# EAGLE library part MAGI³C-VISM_SIP-8 (library WPME-VISM)
MagI³C-VISM Variable Isolated SIP Module Characteristics Simplest design (no transformer design know how required) Leaded through-hole package for easy manufacturing and prototyping Stand alone solution (CIN and COUT integrated, no external components) Only one external resistor required to set the VOUT ON / OFF control Pin Static and dynamic power Boost Simple functional isolation for overvoltage protection, avoiding ground loops, ground shift and noise in signal path or sensor systems Industrial standard package and pin configuration Low conducted and radiated EMI (compliant to EN55032 class B / CISPR-32) IEC/EN/UL60950 & IEC/EN/UL62368 certified Applications Data acquisition Test and measurement systems Interface and microcontroller supply Industrial control <https://katalog.we-online.com/media/images/v2/o124985v209%20Family_WE-VISM_17791063215.jpg> Details see: https://katalog.we-online.com/en/pm/MAGIC-VISM Updated by Ella Wu ,2019-09-19 2019(C) Wurth Elektronik
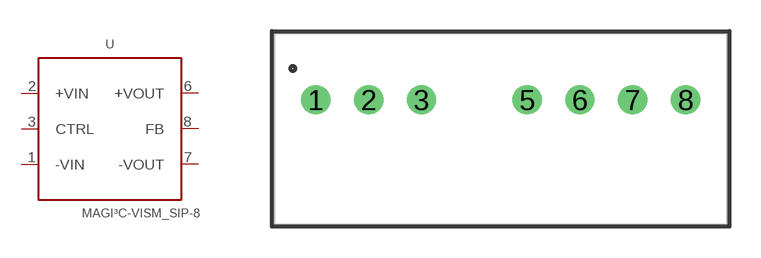
[diagram p0: symbol with the pads of MAGI³C-VISM_SIP-8; footprint MAGI³C-VISM_SIP-8]

Designator prefix U

## MAGI³C-VISM_SIP-8_17791063215 (DATASHEET-URL: https://katalog.we-online.com/pm/datasheet/17791063215.pdf; MOUNT: THT; PART-NUMBER: 17791063215; V-INPUT: 8-42V; V-OUTPUT: 3.3-6V; VISO: 2kV; W-OUTPUT: 1W)  [MAGI³C-VISM_SIP-8]
1  -VIN  pwr
2  +VIN  pwr
3  CTRL  pas
6  +VOUT  pwr
7  -VOUT  pwr
8  FB  pas

## Footprint MAGI³C-VISM_SIP-8 (pad centres in mm)
MagI³C-VISM Variable Isolated SIP Module Size : SIP-8
drill 0.9: 1 -8.89,1.4; 2 -6.35,1.4; 3 -3.81,1.4; 5 1.27,1.4; 6 3.81,1.4; 7 6.35,1.4; 8 8.89,1.4